# Altium footprint library PCB - CAPACITOR - MLCC - MURATA GRT188 0603_1608.PCBLIB: 1 footprints
Each footprint in its own frame and in the unit in brackets; x right, y up, seen from the top. Pads: shape width x height; smd on the part's side, far side on the other; paste and mask are expansions set on the pad; w line width, h text height; cw(c..) or ccw(c..) is an arc to the next point about the centre after c.
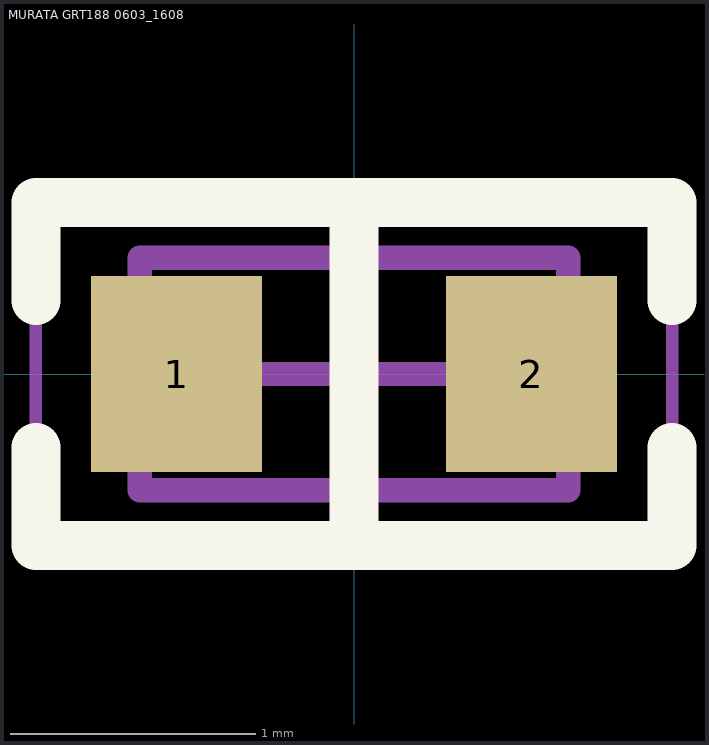
[diagram p0: the footprint, top view; thin cyan lines are the x and y axes]

## MURATA GRT188 0603_1608 [mm] "Chip Capacitor, 2-Leads, Body 1.60x0.80mm"
height 1
pads (2):
  rect 0.7x0.8 smd: 1(-0.725,0) 2(0.725,0)
Top Overlay:
  lines w0.2: -1.3,-0.3 -1.3,-0.7 1.3,-0.7 1.3,-0.3 ; -1.3,0.3 -1.3,0.7 1.3,0.7 1.3,0.3 ; 0,-0.7 0,0.7
Mechanical 13:
  lines w0.1: -0.875,-0.475 -0.875,0.475 0.875,0.475 0.875,-0.475 -0.875,-0.475
Mechanical 15:
  lines w0.05: -1.3,-0.7 1.3,-0.7 1.3,0.7 -1.3,0.7 -1.3,-0.7
  lines w0.1: -0.475,0 0.475,0 ; 0,-0.475 0,0.475
3D body "Murata - GRM188.step": height 1, standoff 0, extent -0.9,-0.5 0.9,0.5